# EAGLE library part BOURNS-EM14 (library monome-inc)
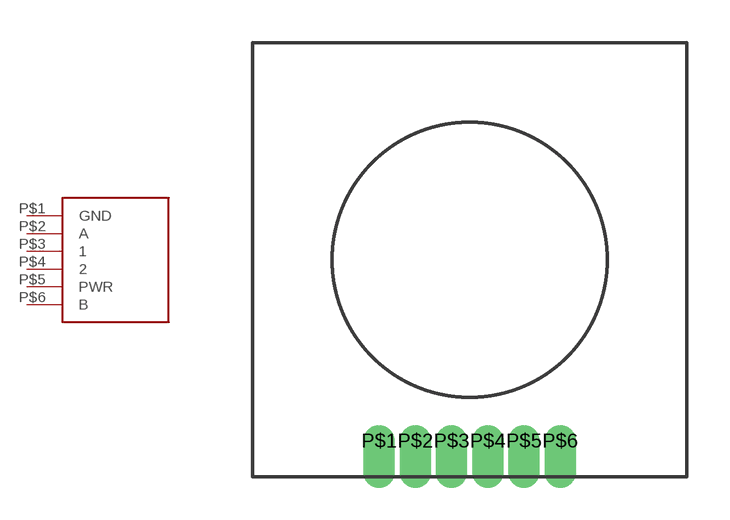
[diagram p10: symbol with the pads of BOURNS-EM14; footprint BOURNS-EM14]

Designator prefix -

## BOURNS-EM14  [BOURNS-EM14]
P$1  GND
P$2  A
P$3  1
P$4  2
P$5  PWR
P$6  B

## Footprint BOURNS-EM14 (pad centres in mm)
drill 0.6 pad 0.813 offset: P$1 -3.175,-6.35; P$2 -1.905,-6.35; P$3 -0.635,-6.35; P$4 0.635,-6.35; P$5 1.905,-6.35; P$6 3.175,-6.35